# EAGLE library part RP?SLF* (library relay)
Special Load PCB Relay SCHRACK 1 pole 16 A, for high inrush currents, bistable Source: http://www.schrack.com/.. 5837.pdf
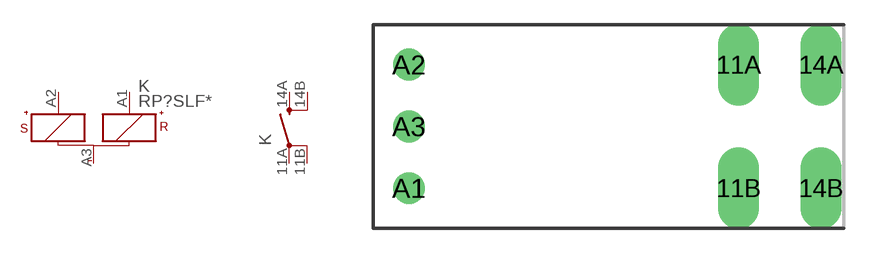
[diagram p131: symbol with the pads of RP-SLF; footprint RP-SLF]

Designator prefix K; gates 1=+KS+KR- 2=S-X2

## RP3SLF12 (MPN: RP3SLF12; OC_FARNELL: unknown; OC_NEWARK: 16R6258), RP3SLF24 (MF: TYCO ELECTRONICS; MPN: RP3SLF24; OC_FARNELL: unknown; OC_NEWARK: 08H3556)  [RP-SLF]
11A  2:PA  pas
11B  2:PB  pas
14A  2:SA  pas
14B  2:SB  pas
A1  1:R+  pas
A2  1:S+  pas
A3  1:-  pas

## RP7SLF12 (OC_FARNELL: unknown; OC_NEWARK: unknown), RP7SLF24 (OC_FARNELL: unknown; OC_NEWARK: unknown)  [RP-SLF]
Pads as for RP-SLF

## Footprint RP-SLF (pad centres in mm)
Special Load PCB Relay SCHRACK 1 pole 16 A, for high inrush currents, bistable Source: http://www.schrack.com/.. 5837.pdf
drill 1.3 pad 2.5 long: 11A 7.56,3.78; 11B 7.56,-3.78; 14A 12.6,3.78; 14B 12.6,-3.78
drill 1.3: A1 -12.6,-3.78; A2 -12.6,3.78; A3 -12.6,0